# EAGLE library part DM3AT-SF-PEJM5 (library DM3AT-SF-PEJM5)
DM3 Series 8 Position Right Angle SMT Push Push Ejection MicroSD Card Connector
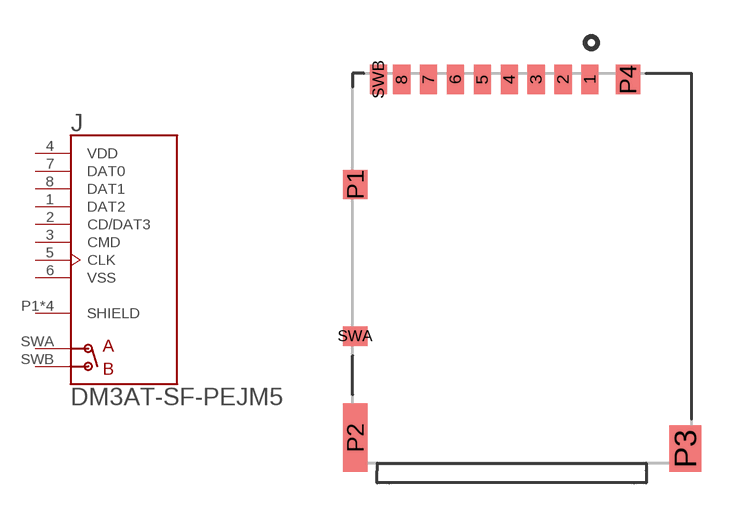
[diagram p0: symbol with the pads of HRS_DM3AT-SF-PEJM5; footprint HRS_DM3AT-SF-PEJM5]

Designator prefix J

## DM3AT-SF-PEJM5 (AVAILABILITY: Unavailable; DESCRIPTION: DM3 RA SMT microSD memory card push/push; MF: Hirose; MP: DM3AT-SF-PEJM5; PACKAGE: None; PRICE: None)  [HRS_DM3AT-SF-PEJM5]
1  DAT2
2  CD/DAT3
3  CMD
4  VDD  pwr
5  CLK
6  VSS  pwr
7  DAT0
8  DAT1
P1  SHIELD  pas
P2  SHIELD  pas
P3  SHIELD  pas
P4  SHIELD  pas
SWA  A
SWB  B

## Footprint HRS_DM3AT-SF-PEJM5 (pad centres in mm)
Micro SD card holder with push-to-eject feature.
smd 0.7 x 1.2: 1 3.2,0; 2 2.1,0; 3 1,0; 4 -0.1,0; 5 -1.2,0; 6 -2.3,0; 7 -3.4,0; 8 -4.5,0; SWB -5.45,0
smd 1 x 1.2: P1 -6.4,-4.3; P4 4.75,0
smd 1 x 2.8: P2 -6.4,-14.65
smd 1.3 x 1.9: P3 7.1,-15.1
smd 1 x 0.8: SWA -6.4,-10.5